# EAGLE library part B16B-PH-K (library Connectors_jst)
HEADER
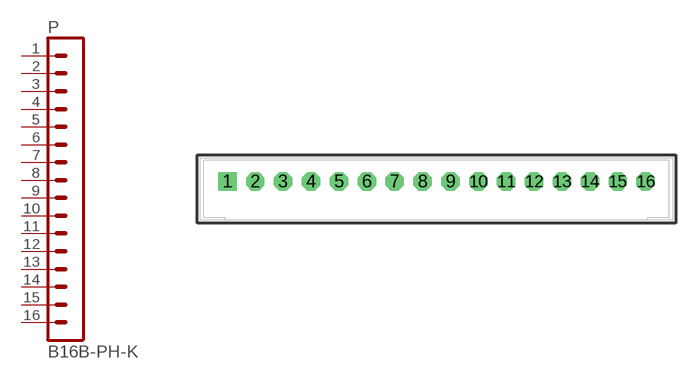
[diagram p10: symbol with the pads of B16B-PH-K; footprint B16B-PH-K]

Designator prefix P

## B16B-PH-K  [B16B-PH-K]
1  1  pas
2  2  pas
3  3  pas
4  4  pas
5  5  pas
6  6  pas
7  7  pas
8  8  pas
9  9  pas
10  10  pas
11  11  pas
12  12  pas
13  13  pas
14  14  pas
15  15  pas
16  16  pas

## Footprint B16B-PH-K (pad centres in mm)
HEADER
drill 0.813 square: 1 -15,0
drill 0.813 octagon: 2 -13,0; 3 -11,0; 4 -9,0; 5 -7,0; 6 -5,0; 7 -3,0; 8 -1,0; 9 1,0; 10 3,0; 11 5,0; 12 7,0; 13 9,0; 14 11,0; 15 13,0; 16 15,0